# Altium schematic symbol library AT89C51-12PC.SchLib: 1 symbol
Pins are listed as number, name and electrical type; pins without a type are passive.

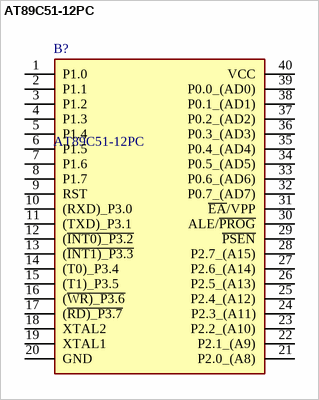
[diagram p0: symbol AT89C51-12PC]

## AT89C51-12PC
designator B?
Microcontroller, 8-BIT, Flash, 8051 Cpu, 12MHZ, Cmos, PDIP40, 0.600 Inch, Plastic, DIP-40; Manufacturer_Name: Microchip; Geometry.Height: 5.59mm; Manufacturer_Part_Number: AT89C51-12PC; Mouser Part Number: 556-AT89C51-12PC; Mouser Price/Stock: https://www.mouser.co.uk/ProductDetail/Microchip-Technology/AT89C51-12PC?qs=fKsNvYl5pt%252B5M7MsETpzQw%3D%3D; Arrow Part Number: *; Arrow Price/Stock: *; Datasheet Link: http://ww1.microchip.com/downloads/en/devicedoc/doc0265.pdf
footprint DIP1525W56P254L5220H559Q40N
pins: 1 P1.0, 2 P1.1, 3 P1.2, 4 P1.3, 5 P1.4, 6 P1.5, 7 P1.6, 8 P1.7, 9 RST, 10 (RXD)_P3.0, 11 (TXD)_P3.1, 12 (~{INT0)_P3.2}, 13 (~{INT1)_P3.3}, 14 (T0)_P3.4, 15 (T1)_P3.5, 16 (~{WR)_P3.6}, 17 (~{RD)_P3.7}, 18 XTAL2, 19 XTAL1, 20 GND, 21 P2.0_(A8), 22 P2.1_(A9), 23 P2.2_(A10), 24 P2.3_(A11), 25 P2.4_(A12), 26 P2.5_(A13), 27 P2.6_(A14), 28 P2.7_(A15), 29 ~{PSEN}, 30 ALE/~{PROG}, 31 ~{EA}/VPP, 32 P0.7_(AD7), 33 P0.6_(AD6), 34 P0.5_(AD5), 35 P0.4_(AD4), 36 P0.3_(AD3), 37 P0.2_(AD2), 38 P0.1_(AD1), 39 P0.0_(AD0), 40 VCC